# EAGLE library part AP1603 (library bschulz)
AP1603 - Low-Input Voltage Step-Up Converter (Boost) Characteristics: Vin: 0.9V ~ 5.5V Vout: 2V ~ 5.5V Output Current (Max): 150 mA IQ: 16μA Operating Temperature: -40°C to 85°C Digikey: AP1603WG-7DICT-ND <https://www.digikey.com/en/products/detail/diodes-incorporated/AP1603WG-7/4570635>
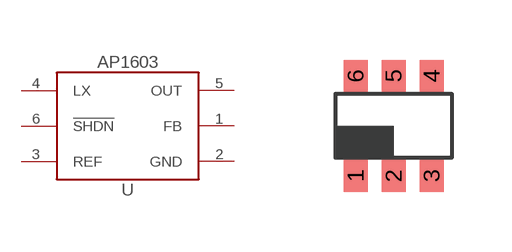
[diagram p160: symbol with the pads of TSOT23-6_DDC; footprint TSOT23-6_DDC]

Designator prefix U

## AP1603 (DIGIKEY: AP1603WG-7DICT-ND; MF: Diodes; MPN: AP1603WG-7)  [TSOT23-6_DDC]
1  FB  in
2  GND  pwr
3  REF  pas
4  LX  pwr
5  OUT  pwr
6  !SHDN  in

## Footprint TSOT23-6_DDC (pad centres in mm)
DDC (R-PDSO-G6) PLASTIC SMALL OUTLINE PACKAGE Source: http://focus.ti.com/lit/ds/symlink/tps61070.pdf
smd 0.6 x 0.8: 1 -0.95,-1.25; 2 0,-1.25; 3 0.95,-1.25; 4 0.95,1.25; 5 0,1.25; 6 -0.95,1.25